# Altium footprint library AT24C512.PcbLib: 1 footprints
Each footprint in its own frame and in the unit in brackets; x right, y up, seen from the top. Pads: shape width x height; smd on the part's side, far side on the other; paste and mask are expansions set on the pad; w line width, h text height; cw(c..) or ccw(c..) is an arc to the next point about the centre after c.
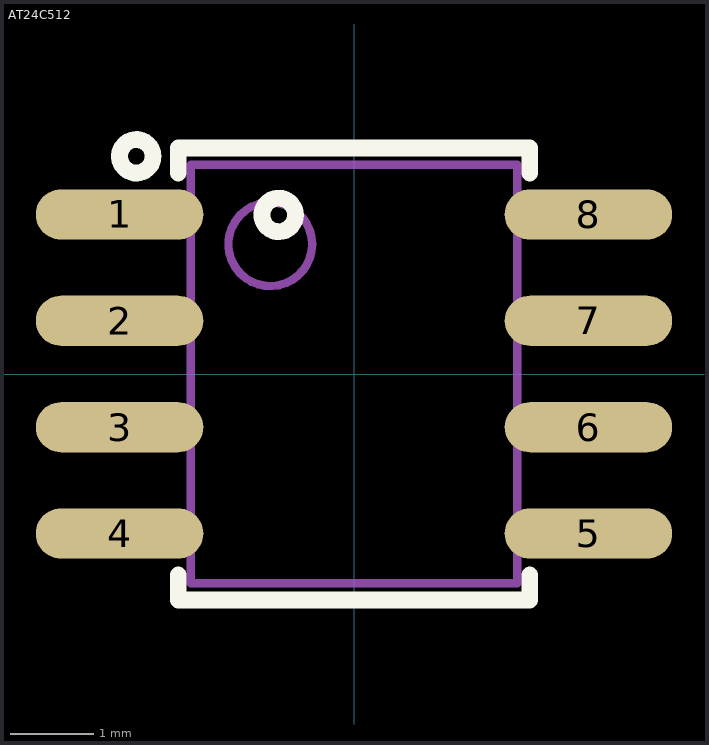
[diagram p0: the footprint, top view; thin cyan lines are the x and y axes]

## AT24C512 [mm]
pads (8):
  oval 2x0.6 smd: 1(-2.8,1.905) 2(-2.8,0.635) 3(-2.8,-0.635) 4(-2.8,-1.905) 5(2.8,-1.905) 6(2.8,-0.635) 7(2.8,0.635) 8(2.8,1.905)
Top Overlay:
  circle w0.2: c-2.6,2.6 r0.2
  circle w0.2: c-0.9,1.9 r0.2
  lines w0.2: -2.1,-2.4 -2.1,-2.7 2.1,-2.7 2.1,-2.4 ; -2.1,2.4 -2.1,2.7 2.1,2.7 2.1,2.4
Mechanical 13:
  circle w0.1: c-1,1.55 r0.5
  lines w0.1: -1.95,-2.5 1.95,-2.5 1.95,2.5 -1.95,2.5 -1.95,-2.5
3D body "User Library-so8-3.step": height 1.7, standoff 0, extent -3,-2.45 3,2.45